# Altium integrated library 74LVC2T45DC_125.IntLib: 1 symbol
Pins are listed as number, name and electrical type; pins without a type are passive.

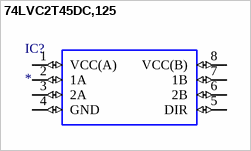
[diagram p0: symbol 74LVC2T45DC,125]

## 74LVC2T45DC,125
designator IC?
Voltage Level Translator Bidirectional 1 Circuit 2 Channel 420Mbps 8-VSSOP; MP: 74LVC2T45DC,125; MF: Nexperia USA; Value: *; Availability: Good; Package: VSSOP8-8 Nexperia USA Inc.; Check_prices: https://www.snapeda.com/parts/74LVC2T45DC,125/Nexperia/view-part/287401/?ref=eda; Price: None; SnapEDA_Link: https://www.snapeda.com/parts/74LVC2T45DC,125/Nexperia/view-part/287401/?ref=snap; Purchase-URL: https://pricing.snapeda.com/search/part/74LVC2T45DC,125/?ref=eda
footprint SOP50P310X100-8N
pins: 1 VCC(A) (io), 2 1A (io), 3 2A (io), 4 GND (io), 5 DIR (io), 6 2B (io), 7 1B (io), 8 VCC(B) (io)